# EAGLE library part LCD_DISPL_16X2 (library TABOR K1)
LCD displej 16x2 s IO HD44870 : kolik= 0,6x0,6mm, rozmiestnenie 2x7 PIN diera s pokovenim = 0,9mm vrtanie = 1,1mm
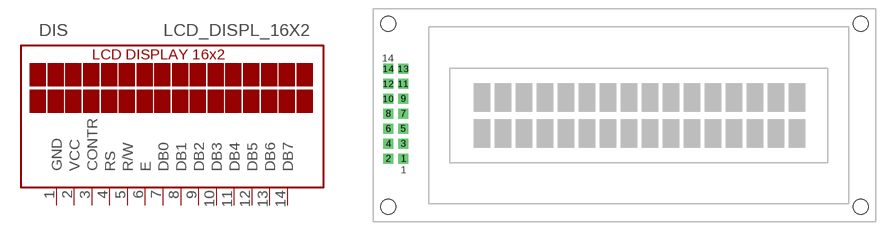
[diagram p59: symbol with the pads of LCD_DISPL_16X2; footprint LCD_DISPL_16X2]

Designator prefix DIS

## LCD_DISPL_16X2Y  [LCD_DISPL_16X2]
1  GND  pwr
2  VCC  pwr
3  CONTR  in
4  RS  in
5  R/W  in
6  E  in
7  DB0
8  DB1
9  DB2
10  DB3
11  DB4
12  DB5
13  DB6
14  DB7

## Footprint LCD_DISPL_16X2 (pad centres in mm)
LCD displej 16x2 s IO HD44870 : kolik= 0,6x0,6mm - 14PIN v rozmiestneni 2x7 diera s pokovenim = 0,9mm vrtanie = 1,1mm
drill 1.092 pad 1.676 square: 1 -40.64,-7.62; 2 -43.18,-7.62; 3 -40.64,-5.08; 4 -43.18,-5.08; 5 -40.64,-2.54; 6 -43.18,-2.54; 7 -40.64,0; 8 -43.18,0; 9 -40.64,2.54; 10 -43.18,2.54; 11 -40.64,5.08; 12 -43.18,5.08; 13 -40.64,7.62; 14 -43.18,7.62
hole 2.54 at -43.18,15.24
hole 2.54 at 36.83,15.24
hole 2.54 at 36.83,-15.748
hole 2.54 at -43.18,-15.748